# EAGLE library part 662024231722 (library Wuerth_Elektronik_eiCan_08_Micro_Power_Connectors)
WR-MPC3 3.00mm Male Dual Row SMT Angled Header SMT Fitting Nail Clip, 24 Pins
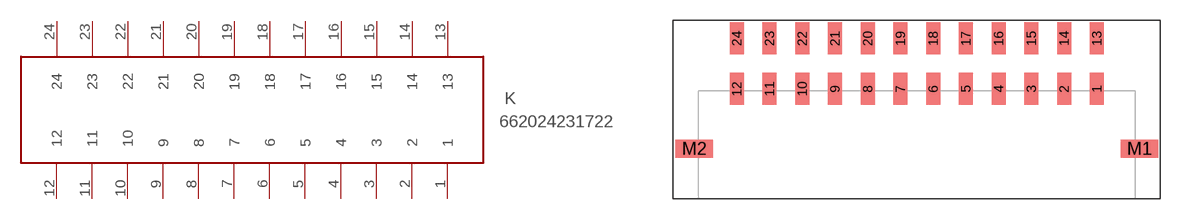
[diagram p69: symbol with the pads of 662024231722; footprint 662024231722]

Designator prefix K

## 662024231722  [662024231722]
1  1
2  2
3  3
4  4
5  5
6  6
7  7
8  8
9  9
10  10
11  11
12  12
13  13
14  14
15  15
16  16
17  17
18  18
19  19
20  20
21  21
22  22
23  23
24  24

## Footprint 662024231722 (pad centres in mm)
WR-MPC3 3.00mm Male Dual Row SMT Angled Header SMT Fitting Nail Clip, 24 Pins
smd 1.27 x 2.92: 1 0,-2.31; 2 -3,-2.31; 3 -6,-2.31; 4 -9,-2.31; 5 -12,-2.31; 6 -15,-2.31; 7 -18,-2.31; 8 -21,-2.31; 9 -24,-2.31; 10 -27,-2.31; 11 -30,-2.31; 12 -33,-2.31; 13 0,2.31; 14 -3,2.31; 15 -6,2.31; 16 -9,2.31; 17 -12,2.31; 18 -15,2.31; 19 -18,2.31; 20 -21,2.31; 21 -24,2.31; 22 -27,2.31; 23 -30,2.31; 24 -33,2.31
smd 3.43 x 1.65: M1 3.895,-7.79; M2 -36.895,-7.79